# Altium schematic symbol library LEDs_OpticalSensors.SchLib: 14 symbols
Pins are listed as number, name and electrical type; pins without a type are passive.

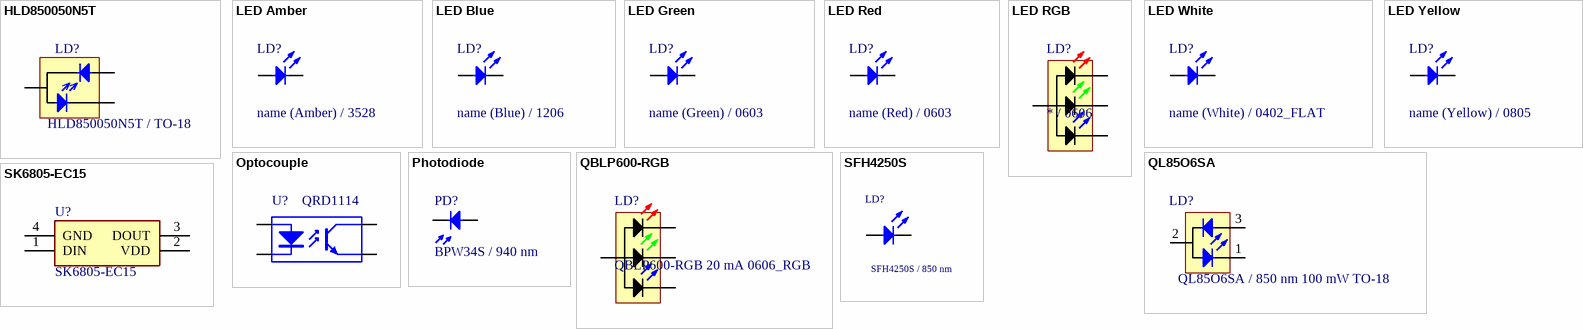
[diagram p0: symbols HLD850050N5T to SK6805-EC15]

## HLD850050N5T
designator LD?, comment HLD850050N5T /
Laser Diode; Power: 50 mW; Wavelength: 850 nm; Current: 20 mA; BOMString: =Name+' / '+Power+' '+Current+' '+Wavelength+' '+Footprint; HelpURL: *; Manufacturer: *; Supplier: *; Name: HLD850050N5T
footprint TO-18
footprint TO-18_wired
pins: 1 LD_K, 2 C, 3 PD_A

## LED Amber
designator LD?, comment name (Amber) /
Amber LED; Current: 20 mA; Color: Amber; Name: name; BOMString: =Name+' ('+Color+ ') / '+' '+Current+' '+Footprint; HelpURL: *; Manufacturer: *; Supplier: *
footprint 3528 (Molded SMD AMBER LED, 2-Leads, Body 3.5x2.8mm, IPC Medium Density)
footprint 0402_FLAT (Chip Resistor, EIA 0402, Metric 1005, Body 1.0x0.5mm, IPC Medium Density)
pins: 1 C, 2 A

## LED Blue
designator LD?, comment name (Blue) /
Blue LED; Current: 20mA; Color: Blue; Name: name; BOMString: =Name+' ('+Color+ ') / '+' '+Current+' '+Footprint; HelpURL: *; Manufacturer: *; Supplier: *
footprint 0402_FLAT (Chip Resistor, EIA 0402, Metric 1005, Body 1.0x0.5mm, IPC Medium Density)
footprint 1206 (Green Chip LED, 2-Leads, Body 3.2 x1.6mm, IPC Medium Density)
pins: 1 C, 2 A

## LED Green
designator LD?, comment name (Green) /
Green LED; Current: 20 mA; Color: Green; Name: name; BOMString: =Name+' ('+Color+ ') / '+' '+Current+' '+Footprint; Supplier: *; HelpURL: *; Manufacturer: *
footprint 0603 (Chip RED LED, 2-Leads, Body 1.6x0.8mm, IPC Medium Density)
footprint 0805 (Green Chip LED, 2-Leads, Body 2.0x1.25mm, IPC Medium Density)
footprint 1206 (Green Chip LED, 2-Leads, Body 3.2 x1.6mm, IPC Medium Density)
footprint 3528 (Molded SMD Green LED, 2-Leads, Body 3.5x2.8mm, IPC Medium Density)
footprint 0402_FLAT (Chip Resistor, EIA 0402, Metric 1005, Body 1.0x0.5mm, IPC Medium Density)
pins: 1 C, 2 A

## LED Red
designator LD?, comment name (Red) /
Red LED; Current: 20 mA; Color: Red; Name: name; BOMString: =Name+' ('+Color+ ') / '+' '+Current+' '+Footprint; HelpURL: *; Supplier: *; Manufacturer: *
footprint 0603 (Chip RED LED, 2-Leads, Body 1.6x0.8mm, IPC Medium Density)
footprint 0805 (Super Red Chip LED, 2-Leads, Body 2.0x1.25mm, IPC Medium Density)
footprint 1206 (Red Chip LED, 2-Leads, Body 3.2 x1.6mm, IPC Medium Density)
footprint 3528 (Molded SMD RED LED, 2-Leads, Body 3.5x2.8mm, IPC Medium Density)
footprint 0402_FLAT (Chip Resistor, EIA 0402, Metric 1005, Body 1.0x0.5mm, IPC Medium Density)
pins: 1 C, 2 A

## LED RGB
designator LD?, comment * /
RGB LED; Current: 20 mA; Name: *; BOM_String: =Name+' ('+Color+ ') / '+' '+Current+' '+Footprint; HelpURL: *; Supplier: *; Manufacturer: *; Color: RGB
footprint 0606
footprint 3528
footprint 3528_INV
footprint 3225 (RGB 1206 Led 4 pin); pin to pad 1>4 4>1
pins: 1 K3, 2 K2, 3 A, 4 K1

## LED White
designator LD?, comment name (White) /
White LED; Current: 20 mA; Color: White; Name: name; BOMString: =Name+' ('+Color+ ') / '+' '+Current+' '+Footprint; HelpURL: *; Manufacturer: *; Supplier: *
footprint 0402_FLAT (Chip Resistor, EIA 0402, Metric 1005, Body 1.0x0.5mm, IPC Medium Density)
pins: 1 C, 2 A

## LED Yellow
designator LD?, comment name (Yellow) /
Yellow LED; Current: 20 mA; Color: Yellow; Name: name; BOMString: =Name+' ('+Color+ ') / '+' '+Current+' '+Footprint; HelpURL: *; Manufacturer: *; Supplier: *
footprint 0805 (Yellow Chip LED, 2-Leads, Body 2.0x1.25mm, IPC Medium Density)
footprint 1206 (Yellow Chip LED, 2-Leads, Body 3.2 x1.6mm, IPC Medium Density)
footprint 3528 (Molded SMD YELLOW LED, 2-Leads, Body 3.5x2.8mm, IPC Medium Density)
footprint 0402_FLAT (Chip Resistor, EIA 0402, Metric 1005, Body 1.0x0.5mm, IPC Medium Density)
pins: 1 C, 2 A

## Optocouple
designator U?, comment QRD1114
Optocouple; Supplier: *; Manufacturer: *; Name: QRD1114; HelpURL: *; BOMString: QRD1114
footprint QRD1114
footprint RPI-0352E (Photointerrupter gap width 4mm)
footprint DIP4_S; pin to pad 1>4 2>3 3>1 4>2
pins: 1 C "Collector", 2 E "Emitter", 3 A "Anode", 4 K "Cathode"

## Photodiode
designator PD?, comment BPW34S / 940 nm
Photodiode; Wavelength: 940 nm; Name: BPW34S; HelpURL: *; Manufacturer: *; Supplier: *; BOMString: BPW34S / 940 nm
footprint BPW34 (SODFL, 2-Leads, Body 3,85x6,45mm, IPC Medium Density)
footprint BPW34S (SODFL, 2-Leads, Body 3,85x6,45mm, IPC Medium Density)
pins: 1 A, 2 K

## QBLP600-RGB
designator LD?, comment QBLP600-RGB 20 mA
QBLP600-RGB; Color: RGB; Current: 20 mA; Name: QBLP600-RGB; HelpURL: http://www.qt-brightek.com/datasheet/QBLP600-RGB.pdf; Supplier: *; Manufacturer: *; BOMString: =Name+' ('+Color+ ') / '+' '+Current+' '+Footprint
footprint 0606_RGB
pins: 1 K3, 2 K2, 3 A, 4 K1

## QL85O6SA
designator LD?, comment QL85O6SA / 850 nm 100 mW
Laser diode; Power: 100 mW; CurrentThresholdMax: 45 mA; OperatingCurrentMax: 150 mA; OperatingVoltageMax: 2.5 V; Slope: 1 mW/mA; Wavelength: 850 nm; Current: 100 mA; Name: QL85O6SA; HelpURL: *; Manufacturer: *; Supplier: *; BOMString: =Name+' '+Wavelength+' '+Power+' '+Footprint
footprint TO-18
footprint TO-18_wired
pins: 1 LDC, 2 COM, 3 PDA

## SFH4250S
designator LD?, comment SFH4250S / 850 nm
High Power 850 nm Infrared Emitter; Wavelength: 850 nm; BOMString: Name+' '+Wavelength+' '+Current+' '+Footprint; Current: 800 mA; HelpURL: http://www.osram-os.com/Graphics/XPic0/00209559_0.pdf; Supplier: http://www.digikey.com/product-detail/en/osram-opto-semiconductors-inc/SFH-4250S/475-3004-1-ND/3461839; Manufacturer: *; Name: SFH4250S
footprint 3528_4pin_inverse
pins: 1 C, 2 A, 3 A hidden, 3 A, 4 A hidden, 4 A

## SK6805-EC15
designator U?
LED; Manufacturer_Name: Shenzhen Normand Electronic; Datasheet Link: http://www.normandled.com/upload/202003/SK6805-EC15%20LED%20Datasheet.pdf; Height: 0.75mm; Manufacturer_Part_Number: SK6805-EC15
footprint 1515
pins: 1 DIN, 2 VDD, 3 DOUT, 4 GND